# Altium footprint library B1931NG--20D001114U1930.PcbLib: 1 footprints
Each footprint in its own frame and in the unit in brackets; x right, y up, seen from the top. Pads: shape width x height; smd on the part's side, far side on the other; paste and mask are expansions set on the pad; w line width, h text height; cw(c..) or ccw(c..) is an arc to the next point about the centre after c.
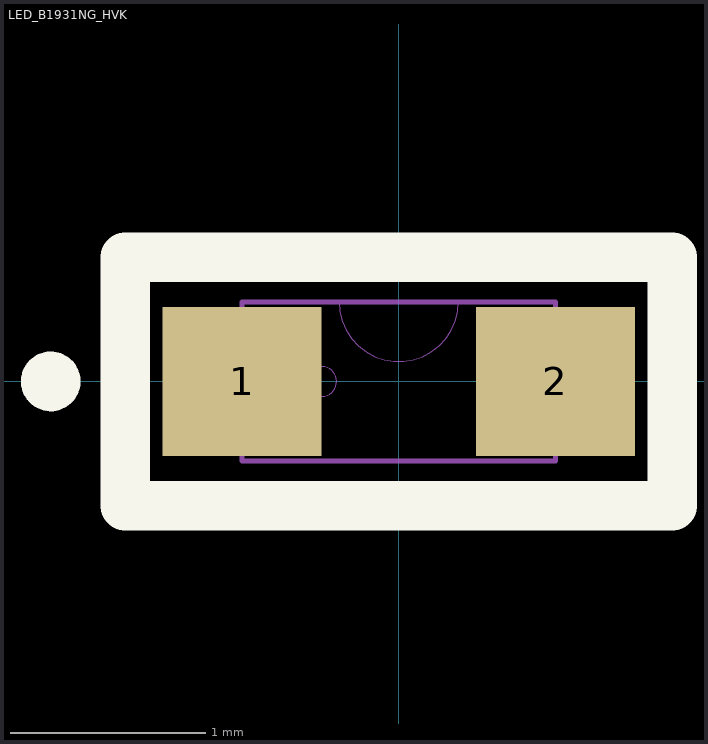
[diagram p0: the footprint, top view; thin cyan lines are the x and y axes]

## LED_B1931NG_HVK [mil]
pads (2):
  rect 32x30 smd paste+0 mask+0: 1(-31.5,0) 2(31.5,0)
Top Overlay:
  circle w6: c-70,0 r3
  lines w10: -55,-25 -55,25 55,25 55,-25 -55,-25
  text ".Designator" at -50,50 h20
Mechanical 13:
  circle w0: c-15.5,0 r3
  lines w0: -12,16 ccw(c0,16) 12,16
  lines w1: -31.5,-16 -31.5,16 31.5,16 31.5,-16 -31.5,-16
3D body "LED_B1931NG_HVK.step": height 16.1, standoff 0, extent -31.5,-15.98 31.5,15.98